# EAGLE library part MKL03Z8VFG4 (library KL03-cortex-m0)
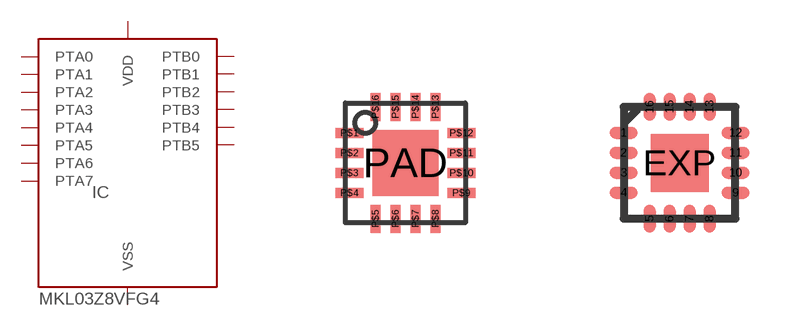
[diagram p0: symbol with the pads of 16QFN; footprints 16QFN, QFN3X3-16]

Designator prefix IC

## MKL03Z8VFG4  [16QFN]
P$1  VDD  pwr
P$2  VSS
P$3  PTA3
P$4  PTA4
P$5  PTA5
P$6  PTA6
P$7  PTA7
P$8  PTB0
P$9  PTB1
P$10  PTB2
P$11  PTB3  oc
P$12  PTB4  oc
P$13  PTB5
P$14  PTA0
P$15  PTA1
P$16  PTA2
PAD  VSS

## MKL03Z8VFG4LTQFN  [QFN3X3-16]
1  VDD  pwr
2  VSS
3  PTA3
4  PTA4
5  PTA5
6  PTA6
7  PTA7
8  PTB0
9  PTB1
10  PTB2
11  PTB3  oc
12  PTB4  oc
13  PTB5
14  PTA0
15  PTA1
16  PTA2
EXP  VSS

## Footprint 16QFN (pad centres in mm)
smd 0.7 x 0.25: P$1 -1.4,0.75; P$2 -1.4,0.25; P$3 -1.4,-0.25; P$4 -1.4,-0.75; P$9 1.4,-0.75; P$10 1.4,-0.25; P$11 1.4,0.25; P$12 1.4,0.75
smd 0.25 x 0.7: P$5 -0.75,-1.4; P$6 -0.25,-1.4; P$7 0.25,-1.4; P$8 0.75,-1.4; P$13 0.75,1.4; P$14 0.25,1.4; P$15 -0.25,1.4; P$16 -0.75,1.4
smd 1.65 x 1.65: PAD 0,0

## Footprint QFN3X3-16 (pad centres in mm)
16-Lead Plastic QFN (3mm × 3mm) Auto generated by make-symbol-device-package-bsdl.ulp Rev. 44 Source: http://cds.linear.com/docs/en/datasheet/3645f.pdf
smd 0.7 x 0.3: 1 -1.4,0.75; 2 -1.4,0.25; 3 -1.4,-0.25; 4 -1.4,-0.75; 9 1.4,-0.75; 10 1.4,-0.25; 11 1.4,0.25; 12 1.4,0.75
smd 0.3 x 0.7: 5 -0.75,-1.4; 6 -0.25,-1.4; 7 0.25,-1.4; 8 0.75,-1.4; 13 0.75,1.4; 14 0.25,1.4; 15 -0.25,1.4; 16 -0.75,1.4
smd 1.45 x 1.45: EXP 0,0